# Altium schematic symbol library Connector.SchLib: 3 symbols
Pins are listed as number, name and electrical type; pins without a type are passive.

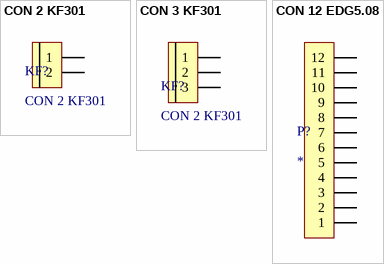
[diagram p0: symbols CON 2 KF301 to CON 12 EDG5.08]

## CON 2 KF301
designator KF?
Cắm; Ma_Hang: MH000987; Ten_Linh_Kien: CON 2 KF301-2P 5.08MM Xanh Dương; Chung_Loai: Cắm; Ghi_Chu: *; Kieu_Chan: *; Don_Vi: Con
footprint Con 2 KF301 5.08
pins: 1, 2

## CON 3 KF301
designator KF?, comment CON 2 KF301
Cắm; Ma_Hang: MH000987; Ten_Linh_Kien: CON 2 KF301-2P 5.08MM Xanh Dương; Chung_Loai: Cắm; Ghi_Chu: *; Kieu_Chan: *; Don_Vi: Con
footprint Con 3 KF301 5.08
pins: 1, 2, 3

## CON 12 EDG5.08
designator P?
footprint CON 12 12EDG5.08
pins: 1, 2, 3, 4, 5, 6, 7, 8, 9, 10, 11, 12